# Altium footprint library PHOENIX_PCV_7.62MM_4x1.PcbLib: 1 footprints
Each footprint in its own frame and in the unit in brackets; x right, y up, seen from the top. Pads: shape width x height; smd on the part's side, far side on the other; paste and mask are expansions set on the pad; w line width, h text height; cw(c..) or ccw(c..) is an arc to the next point about the centre after c.
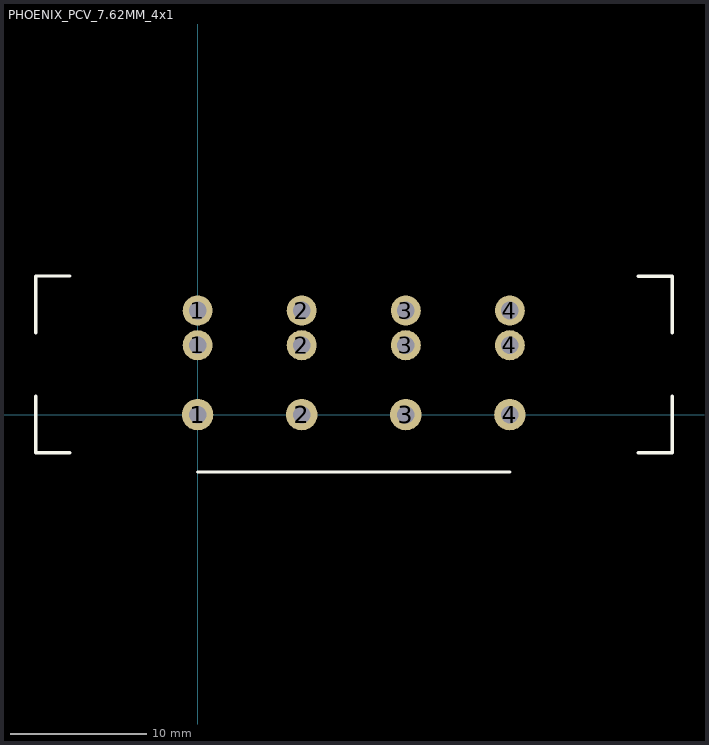
[diagram p0: the footprint, top view; thin cyan lines are the x and y axes]

## PHOENIX_PCV_7.62MM_4x1 [mm]
pads (12):
  round 2.3 hole 1.3: 1(0,0) 2(7.62,0) 3(15.24,0) 4(22.86,0)
  round 2.2 hole 1.3: 1(0,5.08) 1(0,7.62) 2(7.62,5.08) 2(7.62,7.62) 3(15.24,5.08) 3(15.24,7.62) 4(22.86,5.08) 4(22.86,7.62)
Top Overlay:
  lines w0.25: -11.85,1.35 -11.85,-2.8 -9.35,-2.8 ; -11.85,6 -11.85,10.15 -9.35,10.15 ; 0,-4.2 22.86,-4.2 ; 32.247,-2.8 34.747,-2.8 34.747,1.35 ; 32.247,10.134 34.747,10.134 34.747,5.984
3D body "pxc_1720929_03_PCV-5-4-GF-7-62_3D.stp": height 29.25, standoff -5, extent -11.85,-4.15 34.73,10.14